# EAGLE library part ATTINY841 (library SMORSE_Chao)
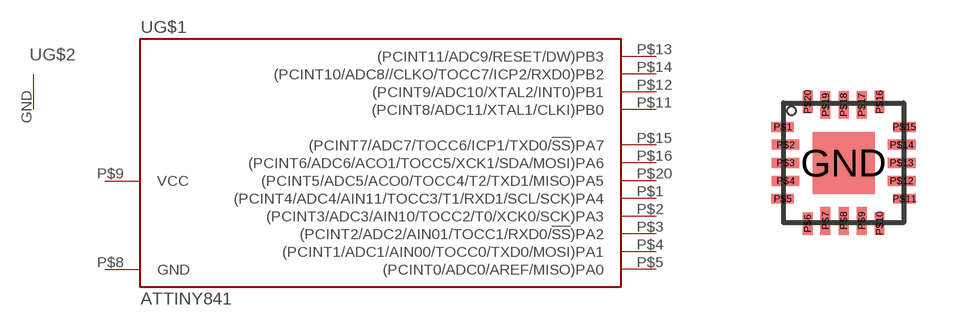
[diagram p2: symbol with the pads of VQFN20; footprint VQFN20]

Designator prefix -; gates G$1=ATTINY841 G$2=GND

## ATTINY841  [VQFN20]
GND  G$2:GND  pwr
P$1  G$1:(PCINT4/ADC4/AIN11/TOCC3/T1/RXD1/SCL/SCK)PA4
P$2  G$1:(PCINT3/ADC3/AIN10/TOCC2/T0/XCK0/SCK)PA3
P$3  G$1:(PCINT2/ADC2/AIN01/TOCC1/RXD0/!SS!)PA2
P$4  G$1:(PCINT1/ADC1/AIN00/TOCC0/TXD0/MOSI)PA1
P$5  G$1:(PCINT0/ADC0/AREF/MISO)PA0
P$8  G$1:GND  pwr
P$9  G$1:VCC  pwr
P$11  G$1:(PCINT8/ADC11/XTAL1/CLKI)PB0
P$12  G$1:(PCINT9/ADC10/XTAL2/INT0)PB1
P$13  G$1:(PCINT11/ADC9/RESET/DW)PB3
P$14  G$1:(PCINT10/ADC8//CLKO/TOCC7/ICP2/RXD0)PB2
P$15  G$1:(PCINT7/ADC7/TOCC6/ICP1/TXD0/!SS!)PA7
P$16  G$1:(PCINT6/ADC6/ACO1/TOCC5/XCK1/SDA/MOSI)PA6
P$20  G$1:(PCINT5/ADC5/ACO0/TOCC4/T2/TXD1/MISO)PA5

## Footprint VQFN20 (pad centres in mm)
smd 1.55 x 1.55: GND 0,0
smd 0.56 x 0.25: P$1 -1.52,0.9; P$5 -1.52,-0.9; P$11 1.52,-0.9; P$15 1.52,0.9
smd 0.7 x 0.25: P$2 -1.45,0.45; P$3 -1.45,0; P$4 -1.45,-0.45; P$12 1.45,-0.45; P$13 1.45,0; P$14 1.45,0.45
smd 0.25 x 0.56: P$6 -0.9,-1.52; P$10 0.9,-1.52; P$16 0.9,1.52; P$20 -0.9,1.52
smd 0.25 x 0.7: P$7 -0.45,-1.45; P$8 0,-1.45; P$9 0.45,-1.45; P$17 0.45,1.45; P$18 0,1.45; P$19 -0.45,1.45